# Altium footprint library PowerAdjusment.PcbLib: 2 footprints
Each footprint in its own frame and in the unit in brackets; x right, y up, seen from the top. Pads: shape width x height; smd on the part's side, far side on the other; paste and mask are expansions set on the pad; w line width, h text height; cw(c..) or ccw(c..) is an arc to the next point about the centre after c.
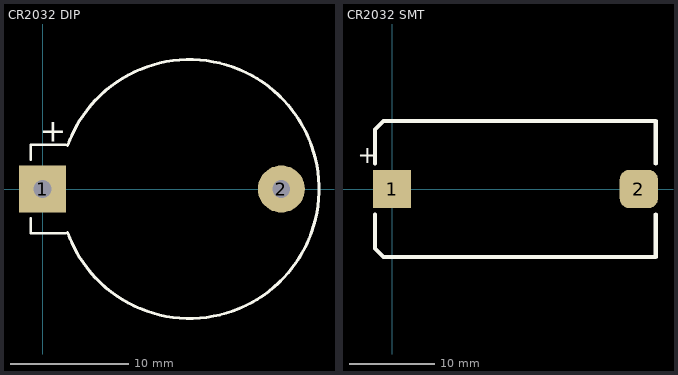
[diagram p0: the footprints below, top view; thin cyan lines are the x and y axes]

## CR2032 DIP [mm]
pads (2):
  rect 4x4 hole 1.5: 1(0,0)
  round 4 hole 1.5: 2(20.3,0)
Top Overlay:
  lines w0.2: -1,-2.5 -1,-3.75 2,-3.75 ; -1,2.5 -1,3.75 2,3.75
  lines w0.254: 2.141,-3.7 ccw(c12.5,0) 2.141,3.7
  text "+" at -0.25,4 h2
3D body: height 8.5, standoff -4, extent -1,-11 23.5,11

## CR2032 SMT [mm]
pads (2):
  rect 4.5x4.5 smd: 1(0,0)
  rrect50% 4.5x4.5 smd: 2(29,0)
Top Overlay:
  lines w0.5: -2,-3 -2,-7 -1,-8 31,-8 31,-3 ; -2,3 -2,7 -1,8 31,8 31,3
  text "+" at -4,3 h2
3D body: height 5.6, standoff 0, extent -1.6,-8 30.6,8